# Altium schematic symbol library DIODE,Schottky,40V,500mA,SMD.Schlib: 1 symbol
Pins are listed as number, name and electrical type; pins without a type are passive.

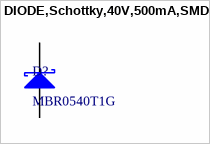
[diagram p0: symbol DIODE,Schottky,40V,500mA,SMD]

## DIODE,Schottky,40V,500mA,SMD
designator D?, comment MBR0540T1G
Diode Schottky 40 V 500mA Surface Mount SOD-123
pins: 1 K, 2 A